# Altium schematic symbol library Molex.SchLib: 1 symbol
Pins are listed as number, name and electrical type; pins without a type are passive.

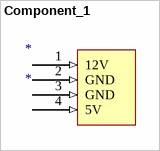
[diagram p0: symbol Component_1]

## Component_1
designator *
footprint Molex (Molex Header)
pins: 1 12V (in), 2 GND (in), 3 GND (in), 4 5V (in)